# EAGLE library part PI-REV2- (library SKAARHOJ)
Raspberry Pi Rev2
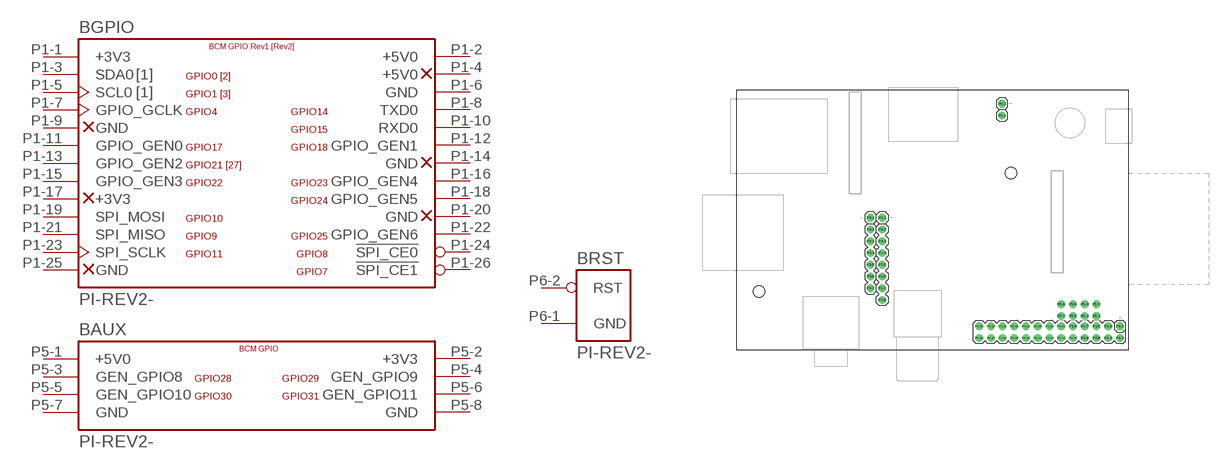
[diagram p22: symbol with the pads of RASPBERRY-PI-REV2; footprint RASPBERRY-PI-REV2]

Designator prefix B; gates GPIO=GPIO AUX=GPIO_AUX RST=RESET

## PI-REV2-BOARD  [RASPBERRY-PI-REV2]
P1-1  GPIO:+3V3  pwr
P1-2  GPIO:+5V0  pwr
P1-3  GPIO:SDA0
P1-4  GPIO:+5V0  nc
P1-5  GPIO:SCL0
P1-6  GPIO:GND  pwr
P1-7  GPIO:GPIO_GCLK
P1-8  GPIO:TXD0
P1-9  GPIO:GND  nc
P1-10  GPIO:RXD0
P1-11  GPIO:GPIO_GEN0
P1-12  GPIO:GPIO_GEN1
P1-13  GPIO:GPIO_GEN2
P1-14  GPIO:GND  nc
P1-15  GPIO:GPIO_GEN3
P1-16  GPIO:GPIO_GEN4
P1-17  GPIO:+3V3  nc
P1-18  GPIO:GPIO_GEN5
P1-19  GPIO:SPI_MOSI
P1-20  GPIO:GND  nc
P1-21  GPIO:SPI_MISO
P1-22  GPIO:GPIO_GEN6
P1-23  GPIO:SPI_SCLK
P1-24  GPIO:!SPI_CE0
P1-25  GPIO:GND  nc
P1-26  GPIO:!SPI_CE1
P5-1  AUX:+5V0  pwr
P5-2  AUX:+3V3  pwr
P5-3  AUX:GEN_GPIO8
P5-4  AUX:GEN_GPIO9
P5-5  AUX:GEN_GPIO10
P5-6  AUX:GEN_GPIO11
P5-7  AUX:GND  pwr
P5-8  AUX:GND  pwr
P6-1  RST:GND  pwr
P6-2  RST:RST

## Footprint RASPBERRY-PI-REV2 (pad centres in mm)
Raspberry Pi Rev2
drill 1.016 pad 1.676 octagon: P1-1 83.095,5.065; P2-1 31.66,28.56; P3-1 29.12,28.56
drill 1.016 pad 1.676: P1-2 83.095,2.525; P1-3 80.555,5.065; P1-4 80.555,2.525; P1-5 78.015,5.065; P1-6 78.015,2.525; P1-7 75.475,5.065; P1-8 75.475,2.525; P1-9 72.935,5.065; P1-10 72.935,2.525; P1-11 70.395,5.065; P1-12 70.395,2.525; P1-13 67.855,5.065; P1-14 67.855,2.525; P1-15 65.315,5.065; P1-16 65.315,2.525; P1-17 62.775,5.065; P1-18 62.775,2.525; P1-19 60.235,5.065; P1-20 60.235,2.525; P1-21 57.695,5.065; P1-22 57.695,2.525; P1-23 55.155,5.065; P1-24 55.155,2.525; P1-25 52.615,5.065; P1-26 52.615,2.525; P2-2 31.66,26.02; P2-3 31.66,23.48; P2-4 31.66,20.94; P2-5 31.66,18.4; P2-6 31.66,15.86; P2-7 31.66,13.32; P2-8 31.66,10.78; P3-2 29.12,26.02; P3-3 29.12,23.48; P3-4 29.12,20.94; P3-5 29.12,18.4; P3-6 29.12,15.86; P3-7 29.12,13.32
drill 1 pad 1.676 octagon: P5-1 78.015,7.287; P6-2 57.58,53.21
drill 1 pad 1.676: P5-2 78.015,9.828; P5-3 75.475,7.287; P5-4 75.475,9.828; P5-5 72.935,7.287; P5-6 72.935,9.828; P5-7 70.395,7.287; P5-8 70.395,9.828; P6-1 57.58,50.67
hole 2.5 at 59.5,38.2
hole 2.5 at 5,12.6